# EAGLE library part ADE7932ARIZ (library ESWchips)
ADE7932 Chip
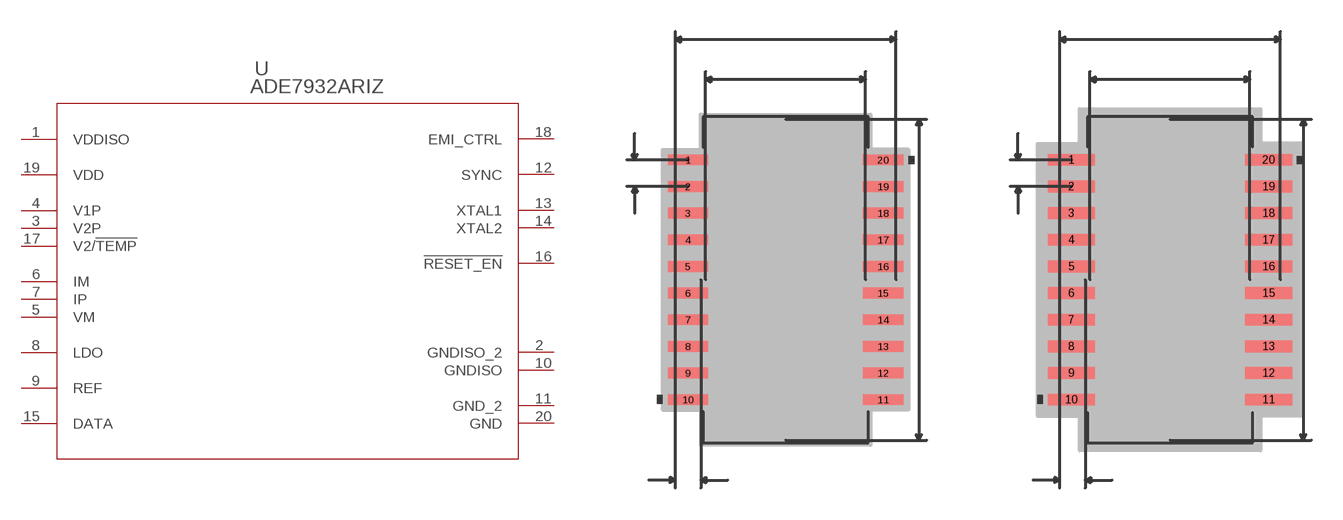
[diagram p1: symbol with the pads of RI_20_1; footprints RI_20_1, RI_20_1-M]

Designator prefix U

## ADE7932ARIZ  [RI_20_1]
1  VDDISO  pas
2  GNDISO_2  pas
3  V2P  pas
4  V1P  pas
5  VM  pas
6  IM  pas
7  IP  pas
8  LDO  pas
9  REF  pas
10  GNDISO  pas
11  GND_2  pas
12  SYNC  pas
13  XTAL1  pas
14  XTAL2  pas
15  DATA  pas
16  !RESET_EN  pas
17  V2/!TEMP  pas
18  EMI_CTRL  pas
19  VDD  pas
20  GND  pas

## ADE7932ARIZRI_20_1-M  [RI_20_1-M]
Pads as for RI_20_1

## ADE7932ARIZRI_20_1-L  [RI_20_1-L]
Pads as for RI_20_1

## Footprint RI_20_1 (pad centres in mm)
smd 1.921 x 0.511: 1 -4.65,5.715; 2 -4.65,4.445; 3 -4.65,3.175; 4 -4.65,1.905; 5 -4.65,0.635; 6 -4.65,-0.635; 7 -4.65,-1.905; 8 -4.65,-3.175; 9 -4.65,-4.445; 10 -4.65,-5.715; 11 4.65,-5.715; 12 4.65,-4.445; 13 4.65,-3.175; 14 4.65,-1.905; 15 4.65,-0.635; 16 4.65,0.635; 17 4.65,1.905; 18 4.65,3.175; 19 4.65,4.445; 20 4.65,5.715

## Footprint RI_20_1-M (pad centres in mm)
smd 2.226 x 0.562: 1 -4.701,5.715; 2 -4.701,4.445; 3 -4.701,3.175; 4 -4.701,1.905; 5 -4.701,0.635; 6 -4.701,-0.635; 7 -4.701,-1.905; 8 -4.701,-3.175; 9 -4.701,-4.445; 10 -4.701,-5.715; 11 4.701,-5.715; 12 4.701,-4.445; 13 4.701,-3.175; 14 4.701,-1.905; 15 4.701,-0.635; 16 4.701,0.635; 17 4.701,1.905; 18 4.701,3.175; 19 4.701,4.445; 20 4.701,5.715

## Footprint RI_20_1-L (pad centres in mm)
smd 1.616 x 0.46: 1 -4.599,5.715; 2 -4.599,4.445; 3 -4.599,3.175; 4 -4.599,1.905; 5 -4.599,0.635; 6 -4.599,-0.635; 7 -4.599,-1.905; 8 -4.599,-3.175; 9 -4.599,-4.445; 10 -4.599,-5.715; 11 4.599,-5.715; 12 4.599,-4.445; 13 4.599,-3.175; 14 4.599,-1.905; 15 4.599,-0.635; 16 4.599,0.635; 17 4.599,1.905; 18 4.599,3.175; 19 4.599,4.445; 20 4.599,5.715